# Altium integrated library Linear Technology Comparators.IntLib: 630 symbols (part 10 of 24)
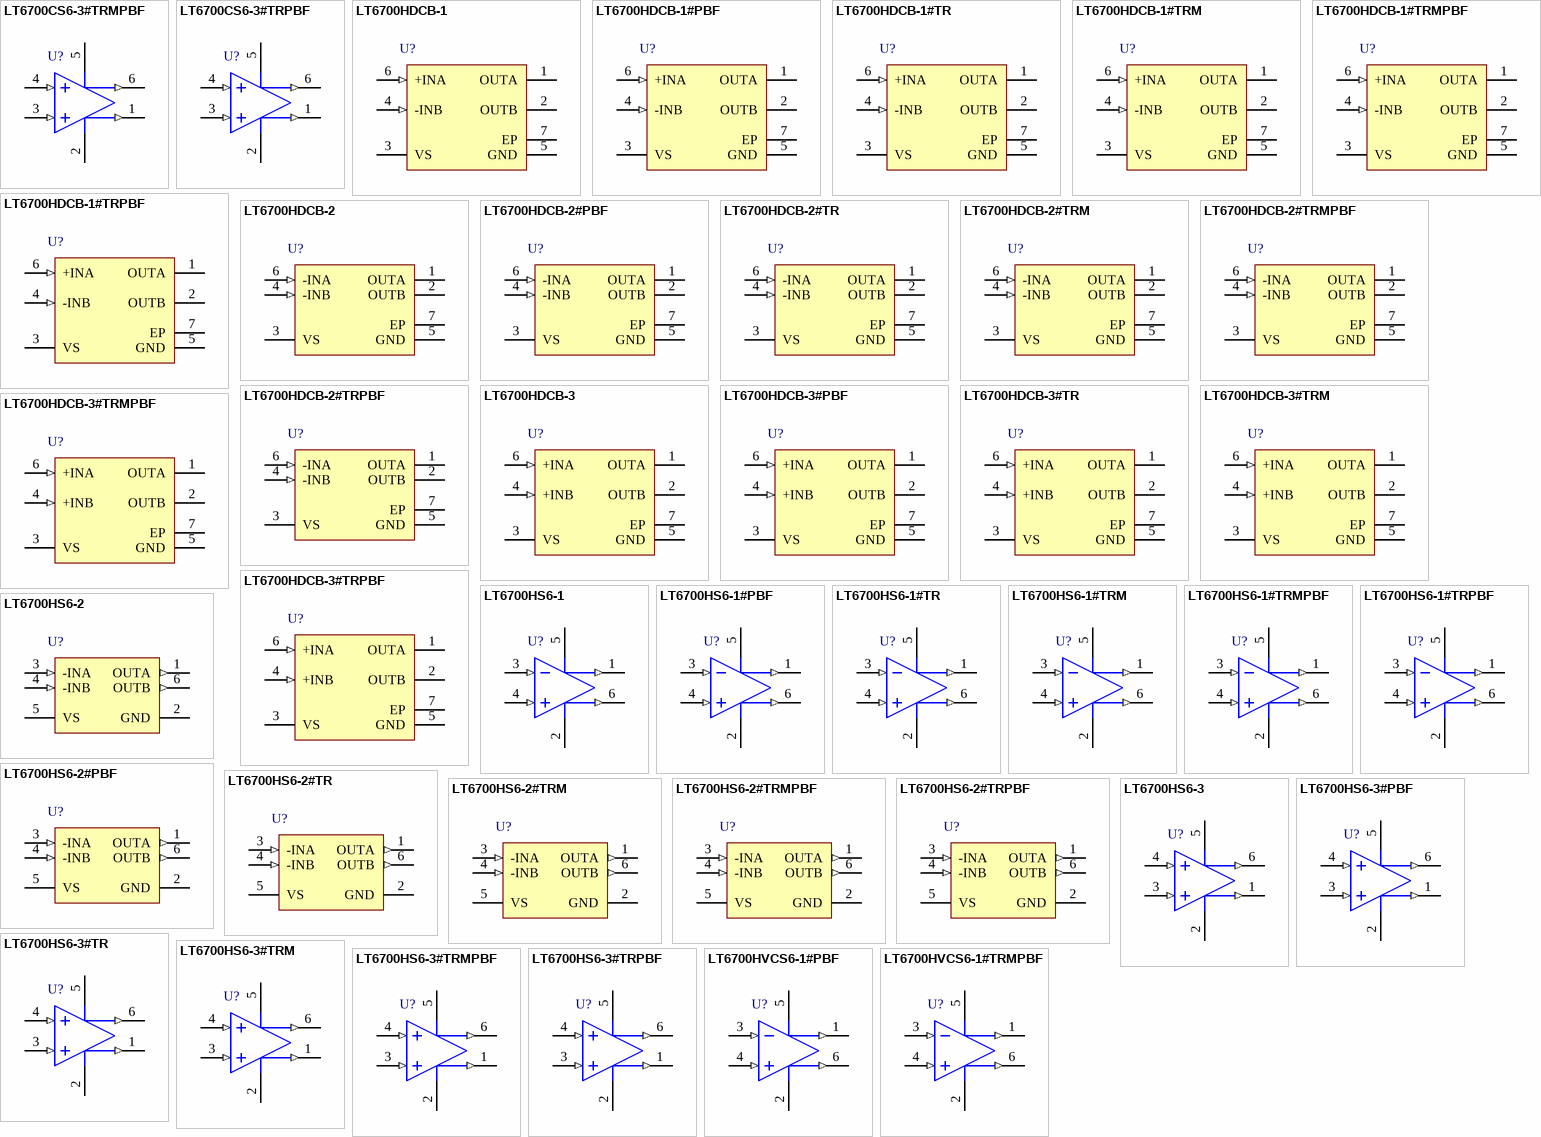
[diagram p33: symbols LT6700CS6-3#TRMPBF to LT6700HVCS6-1#TRMPBF]

## LT6700HS6-2#TR
designator U?
Micropower, Low Voltage, Comparator with 400 mV Reference, 2 Channels, 1.4 to 18 V, -40 to +125 degC, 6-pin Plastic TSOT-23 (S6), Tape and Reel; Generic Part Number: LT6700-2; Manufacturer: Linear Technology; PartNumber: LT6700HS6-2#TR; Channels (#): 2; Prop Delay (us): 18; Supply Current (uA) Guaranteed: 10; Supply Current (uA) Typical: 5.7; Vos (mV) Typical: 6; Vs Min (V): 1.4; DatasheetVersion: Rev G; PackageReference: S6; PackageDescription: 6-Pin Plastic TSOT-23, Body 2.9 x 1.63 mm, Pitch 0.95 mm; Supplier 1: Digi-Key; Supplier Part Number 1: LT6700HS6-2#TR-ND; Features: Comparator, Reference, Over-the-Top Inputs; RoHS: N; Supply Voltage Range: 1.4 to 18 V; Vs Max (V): 18; Mounting Technology: Surface Mount; Code_JEDEC: MO-193; ComponentLink1Description: Manufacturer URL; ComponentLink1URL: http://www.linear.com/; ComponentLink2Description: Datasheet; ComponentLink2URL: http://cds.linear.com/docs/en/datasheet/6700123fg.pdf; ComponentLink3Description: Package Specification; ComponentLink3URL: http://cds.linear.com/docs/en/packaging/SOT_6_05-08-1636.pdf
footprint LT-S6_N (SOT23, 6-Leads, Body 2.9x1.63mm, Pitch 0.95mm, IPC Medium Density)
footprint LT-S6_L (SOT23, 6-Leads, Body 2.9x1.63mm, Pitch 0.95mm, IPC High Density)
footprint LT-S6_M (SOT23, 6-Leads, Body 2.9x1.63mm, Pitch 0.95mm, IPC Low Density)
pins: 1 OUTA (out), 2 GND (power), 3 -INA (in), 4 -INB (in), 5 VS (power), 6 OUTB (out)

## LT6700HS6-2#TRM
designator U?
Micropower, Low Voltage, Comparator with 400 mV Reference, 2 Channels, 1.4 to 18 V, -40 to +125 degC, 6-pin Plastic TSOT-23 (S6), Mini Tape and Reel; Generic Part Number: LT6700-2; Manufacturer: Linear Technology; PartNumber: LT6700HS6-2#TRM; Channels (#): 2; Prop Delay (us): 18; Supply Current (uA) Guaranteed: 10; Supply Current (uA) Typical: 5.7; Vos (mV) Typical: 6; Vs Min (V): 1.4; DatasheetVersion: Rev G; PackageReference: S6; PackageDescription: 6-Pin Plastic TSOT-23, Body 2.9 x 1.63 mm, Pitch 0.95 mm; Supplier 1: Digi-Key; Supplier Part Number 1: LT6700HS6-2#TRM-ND; Features: Comparator, Reference, Over-the-Top Inputs; RoHS: N; Supply Voltage Range: 1.4 to 18 V; Vs Max (V): 18; Mounting Technology: Surface Mount; Code_JEDEC: MO-193; ComponentLink1Description: Manufacturer URL; ComponentLink1URL: http://www.linear.com/; ComponentLink2Description: Datasheet; ComponentLink2URL: http://cds.linear.com/docs/en/datasheet/6700123fg.pdf; ComponentLink3Description: Package Specification; ComponentLink3URL: http://cds.linear.com/docs/en/packaging/SOT_6_05-08-1636.pdf
footprint LT-S6_N (SOT23, 6-Leads, Body 2.9x1.63mm, Pitch 0.95mm, IPC Medium Density)
footprint LT-S6_L (SOT23, 6-Leads, Body 2.9x1.63mm, Pitch 0.95mm, IPC High Density)
footprint LT-S6_M (SOT23, 6-Leads, Body 2.9x1.63mm, Pitch 0.95mm, IPC Low Density)
pins: 1 OUTA (out), 2 GND (power), 3 -INA (in), 4 -INB (in), 5 VS (power), 6 OUTB (out)

## LT6700HS6-2#TRMPBF
designator U?
Micropower, Low Voltage, Comparator with 400 mV Reference, 2 Channels, 1.4 to 18 V, -40 to +125 degC, 6-pin Plastic TSOT-23 (S6), Mini Tape and Reel; Generic Part Number: LT6700-2; Manufacturer: Linear Technology; PartNumber: LT6700HS6-2#TRMPBF; Channels (#): 2; Prop Delay (us): 18; Supply Current (uA) Guaranteed: 10; Supply Current (uA) Typical: 5.7; Vos (mV) Typical: 6; Vs Min (V): 1.4; DatasheetVersion: Rev G; PackageReference: S6; PackageDescription: 6-Pin Plastic TSOT-23, Body 2.9 x 1.63 mm, Pitch 0.95 mm; Supplier 1: Digi-Key; Supplier Part Number 1: LT6700HS6-2#TRMPBF-ND; Features: Comparator, Reference, Over-the-Top Inputs; RoHS: Y; Supply Voltage Range: 1.4 to 18 V; Vs Max (V): 18; Mounting Technology: Surface Mount; Code_JEDEC: MO-193; ComponentLink1Description: Manufacturer URL; ComponentLink1URL: http://www.linear.com/; ComponentLink2Description: Datasheet; ComponentLink2URL: http://cds.linear.com/docs/en/datasheet/6700123fg.pdf; ComponentLink3Description: Package Specification; ComponentLink3URL: http://cds.linear.com/docs/en/packaging/SOT_6_05-08-1636.pdf
footprint LT-S6_N (SOT23, 6-Leads, Body 2.9x1.63mm, Pitch 0.95mm, IPC Medium Density)
footprint LT-S6_L (SOT23, 6-Leads, Body 2.9x1.63mm, Pitch 0.95mm, IPC High Density)
footprint LT-S6_M (SOT23, 6-Leads, Body 2.9x1.63mm, Pitch 0.95mm, IPC Low Density)
pins: 1 OUTA (out), 2 GND (power), 3 -INA (in), 4 -INB (in), 5 VS (power), 6 OUTB (out)

## LT6700HS6-2#TRPBF
designator U?
Micropower, Low Voltage, Comparator with 400 mV Reference, 2 Channels, 1.4 to 18 V, -40 to +125 degC, 6-pin Plastic TSOT-23 (S6), Tape and Reel; Generic Part Number: LT6700-2; Manufacturer: Linear Technology; PartNumber: LT6700HS6-2#TRPBF; Channels (#): 2; Prop Delay (us): 18; Supply Current (uA) Guaranteed: 10; Supply Current (uA) Typical: 5.7; Vos (mV) Typical: 6; Vs Min (V): 1.4; DatasheetVersion: Rev G; PackageReference: S6; PackageDescription: 6-Pin Plastic TSOT-23, Body 2.9 x 1.63 mm, Pitch 0.95 mm; Supplier 1: Digi-Key; Supplier Part Number 1: LT6700HS6-2#TRPBF-ND; Supplier 2: Newark; Supplier Part Number 2: 57M9700; Features: Comparator, Reference, Over-the-Top Inputs; RoHS: Y; Supply Voltage Range: 1.4 to 18 V; Vs Max (V): 18; Mounting Technology: Surface Mount; Code_JEDEC: MO-193; ComponentLink1Description: Manufacturer URL; ComponentLink1URL: http://www.linear.com/; ComponentLink2Description: Datasheet; ComponentLink2URL: http://cds.linear.com/docs/en/datasheet/6700123fg.pdf; ComponentLink3Description: Package Specification; ComponentLink3URL: http://cds.linear.com/docs/en/packaging/SOT_6_05-08-1636.pdf
footprint LT-S6_N (SOT23, 6-Leads, Body 2.9x1.63mm, Pitch 0.95mm, IPC Medium Density)
footprint LT-S6_L (SOT23, 6-Leads, Body 2.9x1.63mm, Pitch 0.95mm, IPC High Density)
footprint LT-S6_M (SOT23, 6-Leads, Body 2.9x1.63mm, Pitch 0.95mm, IPC Low Density)
pins: 1 OUTA (out), 2 GND (power), 3 -INA (in), 4 -INB (in), 5 VS (power), 6 OUTB (out)

## LT6700HS6-3
designator U?
Micropower, Low Voltage, Comparator with 400 mV Reference, 2 Channels, 1.4 to 18 V, -40 to +125 degC, 6-pin Plastic TSOT-23 (S6); Generic Part Number: LT6700-3; Manufacturer: Linear Technology; PartNumber: LT6700HS6-3; Channels (#): 2; Prop Delay (us): 18; Supply Current (uA) Guaranteed: 10; Supply Current (uA) Typical: 5.7; Vos (mV) Typical: 6; Vs Min (V): 1.4; DatasheetVersion: Rev G; PackageReference: S6; PackageDescription: 6-Pin Plastic TSOT-23, Body 2.9 x 1.63 mm, Pitch 0.95 mm; Features: Comparator, Reference, Over-the-Top Inputs; RoHS: N; Supply Voltage Range: 1.4 to 18 V; Vs Max (V): 18; Mounting Technology: Surface Mount; Code_JEDEC: MO-193; ComponentLink1Description: Manufacturer URL; ComponentLink1URL: http://www.linear.com/; ComponentLink2Description: Datasheet; ComponentLink2URL: http://cds.linear.com/docs/en/datasheet/6700123fg.pdf; ComponentLink3Description: Package Specification; ComponentLink3URL: http://cds.linear.com/docs/en/packaging/SOT_6_05-08-1636.pdf
footprint LT-S6_N (SOT23, 6-Leads, Body 2.9x1.63mm, Pitch 0.95mm, IPC Medium Density)
footprint LT-S6_L (SOT23, 6-Leads, Body 2.9x1.63mm, Pitch 0.95mm, IPC High Density)
footprint LT-S6_M (SOT23, 6-Leads, Body 2.9x1.63mm, Pitch 0.95mm, IPC Low Density)
pins: 1 OUTA (out), 2 GND (power), 3 +INA (in), 4 +INB (in), 5 VS (power), 6 OUTB (out)

## LT6700HS6-3#PBF
designator U?
Micropower, Low Voltage, Comparator with 400 mV Reference, 2 Channels, 1.4 to 18 V, -40 to +125 degC, 6-pin Plastic TSOT-23 (S6); Generic Part Number: LT6700-3; Manufacturer: Linear Technology; PartNumber: LT6700HS6-3#PBF; Channels (#): 2; Prop Delay (us): 18; Supply Current (uA) Guaranteed: 10; Supply Current (uA) Typical: 5.7; Vos (mV) Typical: 6; Vs Min (V): 1.4; DatasheetVersion: Rev G; PackageReference: S6; PackageDescription: 6-Pin Plastic TSOT-23, Body 2.9 x 1.63 mm, Pitch 0.95 mm; Supplier 1: Farnell; Supplier Part Number 1: 2294779; Supplier 2: Newark; Supplier Part Number 2: 78T4284; Features: Comparator, Reference, Over-the-Top Inputs; RoHS: Y; Supply Voltage Range: 1.4 to 18 V; Vs Max (V): 18; Mounting Technology: Surface Mount; Code_JEDEC: MO-193; ComponentLink1Description: Manufacturer URL; ComponentLink1URL: http://www.linear.com/; ComponentLink2Description: Datasheet; ComponentLink2URL: http://cds.linear.com/docs/en/datasheet/6700123fg.pdf; ComponentLink3Description: Package Specification; ComponentLink3URL: http://cds.linear.com/docs/en/packaging/SOT_6_05-08-1636.pdf
footprint LT-S6_N (SOT23, 6-Leads, Body 2.9x1.63mm, Pitch 0.95mm, IPC Medium Density)
footprint LT-S6_L (SOT23, 6-Leads, Body 2.9x1.63mm, Pitch 0.95mm, IPC High Density)
footprint LT-S6_M (SOT23, 6-Leads, Body 2.9x1.63mm, Pitch 0.95mm, IPC Low Density)
pins: 1 OUTA (out), 2 GND (power), 3 +INA (in), 4 +INB (in), 5 VS (power), 6 OUTB (out)

## LT6700HS6-3#TR
designator U?
Micropower, Low Voltage, Comparator with 400 mV Reference, 2 Channels, 1.4 to 18 V, -40 to +125 degC, 6-pin Plastic TSOT-23 (S6), Tape and Reel; Generic Part Number: LT6700-3; Manufacturer: Linear Technology; PartNumber: LT6700HS6-3#TR; Channels (#): 2; Prop Delay (us): 18; Supply Current (uA) Guaranteed: 10; Supply Current (uA) Typical: 5.7; Vos (mV) Typical: 6; Vs Min (V): 1.4; DatasheetVersion: Rev G; PackageReference: S6; PackageDescription: 6-Pin Plastic TSOT-23, Body 2.9 x 1.63 mm, Pitch 0.95 mm; Supplier 1: Digi-Key; Supplier Part Number 1: LT6700HS6-3#TR-ND; Features: Comparator, Reference, Over-the-Top Inputs; RoHS: N; Supply Voltage Range: 1.4 to 18 V; Vs Max (V): 18; Mounting Technology: Surface Mount; Code_JEDEC: MO-193; ComponentLink1Description: Manufacturer URL; ComponentLink1URL: http://www.linear.com/; ComponentLink2Description: Datasheet; ComponentLink2URL: http://cds.linear.com/docs/en/datasheet/6700123fg.pdf; ComponentLink3Description: Package Specification; ComponentLink3URL: http://cds.linear.com/docs/en/packaging/SOT_6_05-08-1636.pdf
footprint LT-S6_N (SOT23, 6-Leads, Body 2.9x1.63mm, Pitch 0.95mm, IPC Medium Density)
footprint LT-S6_L (SOT23, 6-Leads, Body 2.9x1.63mm, Pitch 0.95mm, IPC High Density)
footprint LT-S6_M (SOT23, 6-Leads, Body 2.9x1.63mm, Pitch 0.95mm, IPC Low Density)
pins: 1 OUTA (out), 2 GND (power), 3 +INA (in), 4 +INB (in), 5 VS (power), 6 OUTB (out)

## LT6700HS6-3#TRM
designator U?
Micropower, Low Voltage, Comparator with 400 mV Reference, 2 Channels, 1.4 to 18 V, -40 to +125 degC, 6-pin Plastic TSOT-23 (S6), Mini Tape and Reel; Generic Part Number: LT6700-3; Manufacturer: Linear Technology; PartNumber: LT6700HS6-3#TRM; Channels (#): 2; Prop Delay (us): 18; Supply Current (uA) Guaranteed: 10; Supply Current (uA) Typical: 5.7; Vos (mV) Typical: 6; Vs Min (V): 1.4; DatasheetVersion: Rev G; PackageReference: S6; PackageDescription: 6-Pin Plastic TSOT-23, Body 2.9 x 1.63 mm, Pitch 0.95 mm; Supplier 1: Digi-Key; Supplier Part Number 1: LT6700HS6-3#TRM-ND; Features: Comparator, Reference, Over-the-Top Inputs; RoHS: N; Supply Voltage Range: 1.4 to 18 V; Vs Max (V): 18; Mounting Technology: Surface Mount; Code_JEDEC: MO-193; ComponentLink1Description: Manufacturer URL; ComponentLink1URL: http://www.linear.com/; ComponentLink2Description: Datasheet; ComponentLink2URL: http://cds.linear.com/docs/en/datasheet/6700123fg.pdf; ComponentLink3Description: Package Specification; ComponentLink3URL: http://cds.linear.com/docs/en/packaging/SOT_6_05-08-1636.pdf
footprint LT-S6_N (SOT23, 6-Leads, Body 2.9x1.63mm, Pitch 0.95mm, IPC Medium Density)
footprint LT-S6_L (SOT23, 6-Leads, Body 2.9x1.63mm, Pitch 0.95mm, IPC High Density)
footprint LT-S6_M (SOT23, 6-Leads, Body 2.9x1.63mm, Pitch 0.95mm, IPC Low Density)
pins: 1 OUTA (out), 2 GND (power), 3 +INA (in), 4 +INB (in), 5 VS (power), 6 OUTB (out)

## LT6700HS6-3#TRMPBF
designator U?
Micropower, Low Voltage, Comparator with 400 mV Reference, 2 Channels, 1.4 to 18 V, -40 to +125 degC, 6-pin Plastic TSOT-23 (S6), Mini Tape and Reel; Generic Part Number: LT6700-3; Manufacturer: Linear Technology; PartNumber: LT6700HS6-3#TRMPBF; Channels (#): 2; Prop Delay (us): 18; Supply Current (uA) Guaranteed: 10; Supply Current (uA) Typical: 5.7; Vos (mV) Typical: 6; Vs Min (V): 1.4; DatasheetVersion: Rev G; PackageReference: S6; PackageDescription: 6-Pin Plastic TSOT-23, Body 2.9 x 1.63 mm, Pitch 0.95 mm; Supplier 1: Digi-Key; Supplier Part Number 1: LT6700HS6-3#TRMPBF-ND; Features: Comparator, Reference, Over-the-Top Inputs; RoHS: Y; Supply Voltage Range: 1.4 to 18 V; Vs Max (V): 18; Mounting Technology: Surface Mount; Code_JEDEC: MO-193; ComponentLink1Description: Manufacturer URL; ComponentLink1URL: http://www.linear.com/; ComponentLink2Description: Datasheet; ComponentLink2URL: http://cds.linear.com/docs/en/datasheet/6700123fg.pdf; ComponentLink3Description: Package Specification; ComponentLink3URL: http://cds.linear.com/docs/en/packaging/SOT_6_05-08-1636.pdf
footprint LT-S6_N (SOT23, 6-Leads, Body 2.9x1.63mm, Pitch 0.95mm, IPC Medium Density)
footprint LT-S6_L (SOT23, 6-Leads, Body 2.9x1.63mm, Pitch 0.95mm, IPC High Density)
footprint LT-S6_M (SOT23, 6-Leads, Body 2.9x1.63mm, Pitch 0.95mm, IPC Low Density)
pins: 1 OUTA (out), 2 GND (power), 3 +INA (in), 4 +INB (in), 5 VS (power), 6 OUTB (out)

## LT6700HS6-3#TRPBF
designator U?
Micropower, Low Voltage, Comparator with 400 mV Reference, 2 Channels, 1.4 to 18 V, -40 to +125 degC, 6-pin Plastic TSOT-23 (S6), Tape and Reel; Generic Part Number: LT6700-3; Manufacturer: Linear Technology; PartNumber: LT6700HS6-3#TRPBF; Channels (#): 2; Prop Delay (us): 18; Supply Current (uA) Guaranteed: 10; Supply Current (uA) Typical: 5.7; Vos (mV) Typical: 6; Vs Min (V): 1.4; DatasheetVersion: Rev G; PackageReference: S6; PackageDescription: 6-Pin Plastic TSOT-23, Body 2.9 x 1.63 mm, Pitch 0.95 mm; Supplier 1: Digi-Key; Supplier Part Number 1: LT6700HS6-3#TRPBF-ND; Features: Comparator, Reference, Over-the-Top Inputs; RoHS: Y; Supply Voltage Range: 1.4 to 18 V; Vs Max (V): 18; Mounting Technology: Surface Mount; Code_JEDEC: MO-193; ComponentLink1Description: Manufacturer URL; ComponentLink1URL: http://www.linear.com/; ComponentLink2Description: Datasheet; ComponentLink2URL: http://cds.linear.com/docs/en/datasheet/6700123fg.pdf; ComponentLink3Description: Package Specification; ComponentLink3URL: http://cds.linear.com/docs/en/packaging/SOT_6_05-08-1636.pdf
footprint LT-S6_N (SOT23, 6-Leads, Body 2.9x1.63mm, Pitch 0.95mm, IPC Medium Density)
footprint LT-S6_L (SOT23, 6-Leads, Body 2.9x1.63mm, Pitch 0.95mm, IPC High Density)
footprint LT-S6_M (SOT23, 6-Leads, Body 2.9x1.63mm, Pitch 0.95mm, IPC Low Density)
pins: 1 OUTA (out), 2 GND (power), 3 +INA (in), 4 +INB (in), 5 VS (power), 6 OUTB (out)

## LT6700HVCS6-1#PBF
designator U?
Micropower, Low Voltage, Comparator with 400 mV Reference, 2 Channels, 1.4 to 36 V, 0 to +70 degC, 6-pin Plastic TSOT-23 (S6); Generic Part Number: LT6700HV-1; Manufacturer: Linear Technology; PartNumber: LT6700HVCS6-1#PBF; Channels (#): 2; Prop Delay (us): 18; Supply Current (uA) Guaranteed: 10; Supply Current (uA) Typical: 5.7; Vos (mV) Typical: 6; Vs Max (V): 36; Vs Min (V): 1.4; DatasheetVersion: Rev G; PackageReference: S6; PackageDescription: 6-Pin Plastic TSOT-23, Body 2.9 x 1.63 mm, Pitch 0.95 mm; Features: Comparator, Window Comparator, Reference, Over-the-Top Inputs; RoHS: Y; Supply Voltage Range: 1.4 to 36 V; Mounting Technology: Surface Mount; Code_JEDEC: MO-193; ComponentLink1Description: Manufacturer URL; ComponentLink1URL: http://www.linear.com/; ComponentLink2Description: Datasheet; ComponentLink2URL: http://cds.linear.com/docs/en/datasheet/6700123fg.pdf; ComponentLink3Description: Package Specification; ComponentLink3URL: http://cds.linear.com/docs/en/packaging/SOT_6_05-08-1636.pdf
footprint LT-S6_N (SOT23, 6-Leads, Body 2.9x1.63mm, Pitch 0.95mm, IPC Medium Density)
footprint LT-S6_L (SOT23, 6-Leads, Body 2.9x1.63mm, Pitch 0.95mm, IPC High Density)
footprint LT-S6_M (SOT23, 6-Leads, Body 2.9x1.63mm, Pitch 0.95mm, IPC Low Density)
pins: 1 OUTA (out), 2 GND (power), 3 +INA (in), 4 -INB (in), 5 VS (power), 6 OUTB (out)

## LT6700HVCS6-1#TRMPBF
designator U?
Micropower, Low Voltage, Comparator with 400 mV Reference, 2 Channels, 1.4 to 36 V, 0 to +70 degC, 6-pin Plastic TSOT-23 (S6), Mini Tape and Reel; Generic Part Number: LT6700HV-1; Manufacturer: Linear Technology; PartNumber: LT6700HVCS6-1#TRMPBF; Channels (#): 2; Prop Delay (us): 18; Supply Current (uA) Guaranteed: 10; Supply Current (uA) Typical: 5.7; Vos (mV) Typical: 6; Vs Max (V): 36; Vs Min (V): 1.4; DatasheetVersion: Rev G; PackageReference: S6; PackageDescription: 6-Pin Plastic TSOT-23, Body 2.9 x 1.63 mm, Pitch 0.95 mm; Supplier 1: Digi-Key; Supplier Part Number 1: LT6700HVCS6-1#TRMPBF-ND; Features: Comparator, Window Comparator, Reference, Over-the-Top Inputs; RoHS: Y; Supply Voltage Range: 1.4 to 36 V; Mounting Technology: Surface Mount; Code_JEDEC: MO-193; ComponentLink1Description: Manufacturer URL; ComponentLink1URL: http://www.linear.com/; ComponentLink2Description: Datasheet; ComponentLink2URL: http://cds.linear.com/docs/en/datasheet/6700123fg.pdf; ComponentLink3Description: Package Specification; ComponentLink3URL: http://cds.linear.com/docs/en/packaging/SOT_6_05-08-1636.pdf
footprint LT-S6_N (SOT23, 6-Leads, Body 2.9x1.63mm, Pitch 0.95mm, IPC Medium Density)
footprint LT-S6_L (SOT23, 6-Leads, Body 2.9x1.63mm, Pitch 0.95mm, IPC High Density)
footprint LT-S6_M (SOT23, 6-Leads, Body 2.9x1.63mm, Pitch 0.95mm, IPC Low Density)
pins: 1 OUTA (out), 2 GND (power), 3 +INA (in), 4 -INB (in), 5 VS (power), 6 OUTB (out)

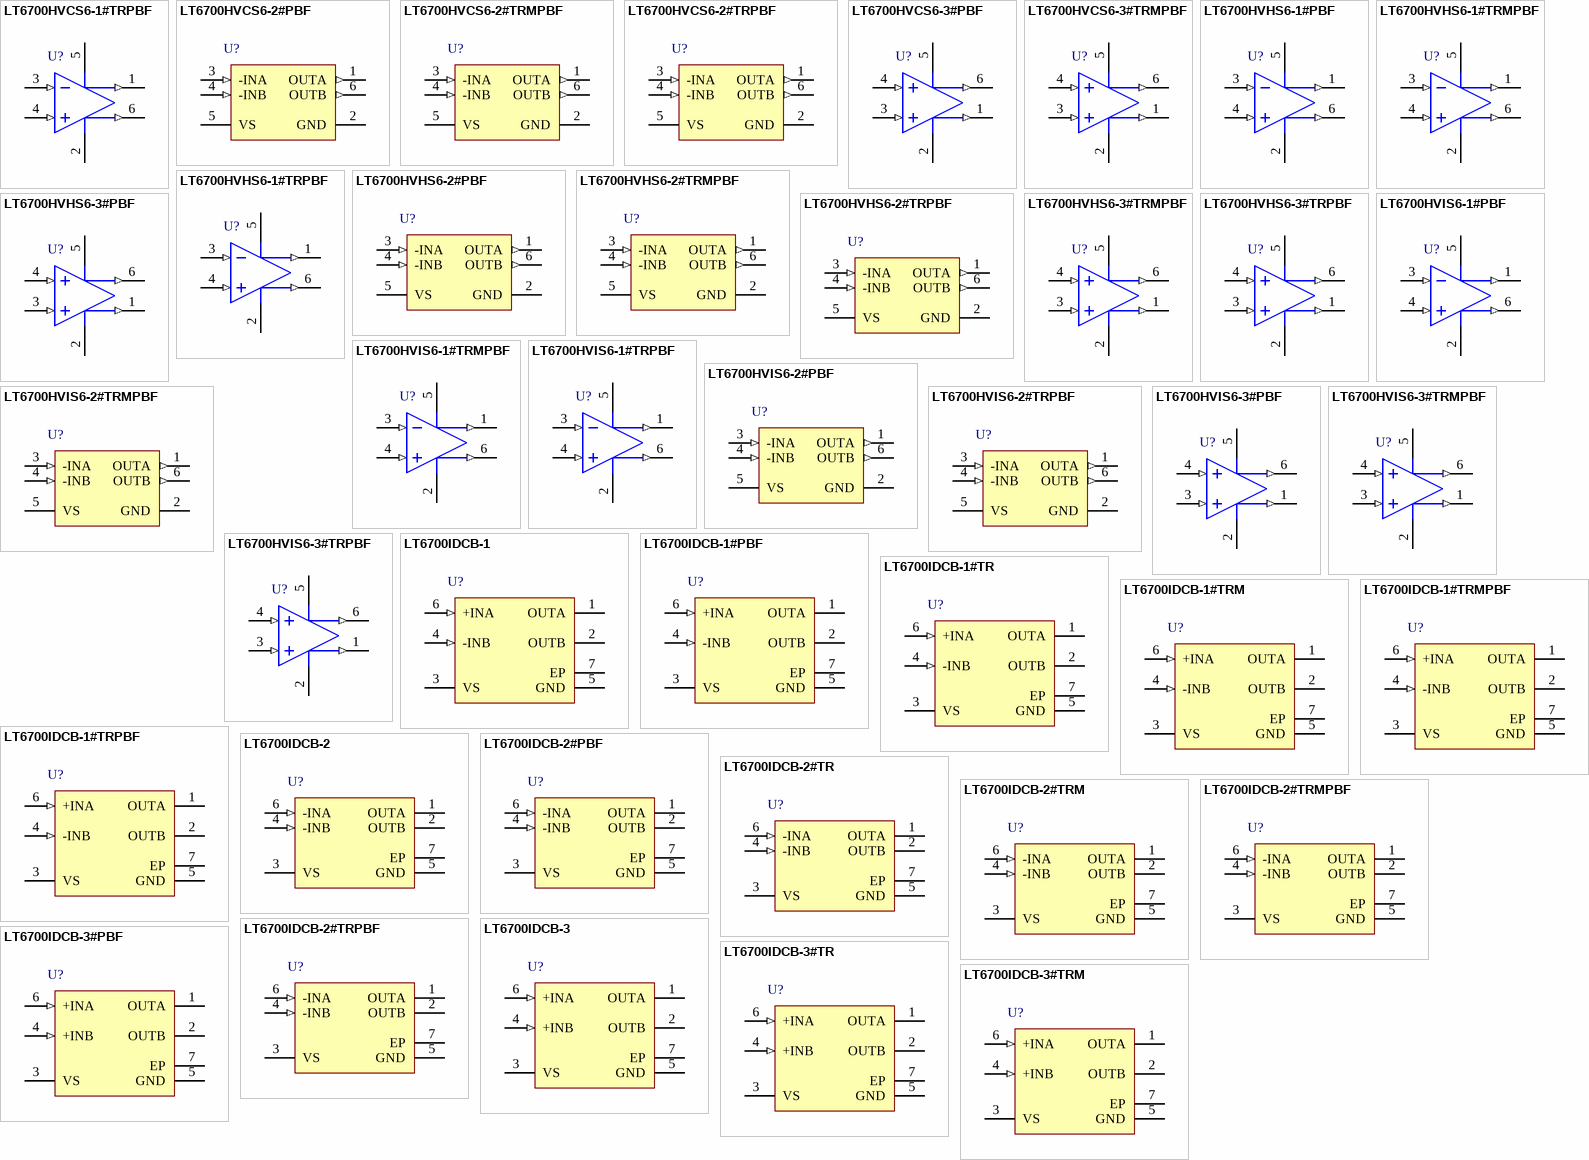
[diagram p10: symbols LT6700HVCS6-1#TRPBF to LT6700IDCB-3#TRM]

## LT6700HVCS6-1#TRPBF
designator U?
Micropower, Low Voltage, Comparator with 400 mV Reference, 2 Channels, 1.4 to 36 V, 0 to +70 degC, 6-pin Plastic TSOT-23 (S6), Tape and Reel; Generic Part Number: LT6700HV-1; Manufacturer: Linear Technology; PartNumber: LT6700HVCS6-1#TRPBF; Channels (#): 2; Prop Delay (us): 18; Supply Current (uA) Guaranteed: 10; Supply Current (uA) Typical: 5.7; Vos (mV) Typical: 6; Vs Max (V): 36; Vs Min (V): 1.4; DatasheetVersion: Rev G; PackageReference: S6; PackageDescription: 6-Pin Plastic TSOT-23, Body 2.9 x 1.63 mm, Pitch 0.95 mm; Supplier 1: Digi-Key; Supplier Part Number 1: LT6700HVCS6-1#TRPBF-ND; Supplier 2: Newark; Supplier Part Number 2: 02P7675; Features: Comparator, Window Comparator, Reference, Over-the-Top Inputs; RoHS: Y; Supply Voltage Range: 1.4 to 36 V; Mounting Technology: Surface Mount; Code_JEDEC: MO-193; ComponentLink1Description: Manufacturer URL; ComponentLink1URL: http://www.linear.com/; ComponentLink2Description: Datasheet; ComponentLink2URL: http://cds.linear.com/docs/en/datasheet/6700123fg.pdf; ComponentLink3Description: Package Specification; ComponentLink3URL: http://cds.linear.com/docs/en/packaging/SOT_6_05-08-1636.pdf
footprint LT-S6_N (SOT23, 6-Leads, Body 2.9x1.63mm, Pitch 0.95mm, IPC Medium Density)
footprint LT-S6_L (SOT23, 6-Leads, Body 2.9x1.63mm, Pitch 0.95mm, IPC High Density)
footprint LT-S6_M (SOT23, 6-Leads, Body 2.9x1.63mm, Pitch 0.95mm, IPC Low Density)
pins: 1 OUTA (out), 2 GND (power), 3 +INA (in), 4 -INB (in), 5 VS (power), 6 OUTB (out)

## LT6700HVCS6-2#PBF
designator U?
Micropower, Low Voltage, Comparator with 400 mV Reference, 2 Channels, 1.4 to 36 V, 0 to +70 degC, 6-pin Plastic TSOT-23 (S6); Generic Part Number: LT6700HV-2; Manufacturer: Linear Technology; PartNumber: LT6700HVCS6-2#PBF; Channels (#): 2; Prop Delay (us): 18; Supply Current (uA) Guaranteed: 10; Supply Current (uA) Typical: 5.7; Vos (mV) Typical: 6; Vs Max (V): 36; Vs Min (V): 1.4; DatasheetVersion: Rev G; PackageReference: S6; PackageDescription: 6-Pin Plastic TSOT-23, Body 2.9 x 1.63 mm, Pitch 0.95 mm; Supplier 1: Farnell; Supplier Part Number 1: 2294780; Features: Comparator, Reference, Over-the-Top Inputs; RoHS: Y; Supply Voltage Range: 1.4 to 36 V; Mounting Technology: Surface Mount; Code_JEDEC: MO-193; ComponentLink1Description: Manufacturer URL; ComponentLink1URL: http://www.linear.com/; ComponentLink2Description: Datasheet; ComponentLink2URL: http://cds.linear.com/docs/en/datasheet/6700123fg.pdf; ComponentLink3Description: Package Specification; ComponentLink3URL: http://cds.linear.com/docs/en/packaging/SOT_6_05-08-1636.pdf
footprint LT-S6_N (SOT23, 6-Leads, Body 2.9x1.63mm, Pitch 0.95mm, IPC Medium Density)
footprint LT-S6_L (SOT23, 6-Leads, Body 2.9x1.63mm, Pitch 0.95mm, IPC High Density)
footprint LT-S6_M (SOT23, 6-Leads, Body 2.9x1.63mm, Pitch 0.95mm, IPC Low Density)
pins: 1 OUTA (out), 2 GND (power), 3 -INA (in), 4 -INB (in), 5 VS (power), 6 OUTB (out)

## LT6700HVCS6-2#TRMPBF
designator U?
Micropower, Low Voltage, Comparator with 400 mV Reference, 2 Channels, 1.4 to 36 V, 0 to +70 degC, 6-pin Plastic TSOT-23 (S6), Mini Tape and Reel; Generic Part Number: LT6700HV-2; Manufacturer: Linear Technology; PartNumber: LT6700HVCS6-2#TRMPBF; Channels (#): 2; Prop Delay (us): 18; Supply Current (uA) Guaranteed: 10; Supply Current (uA) Typical: 5.7; Supply Voltage Range: 1.4 to 18 V; Vos (mV) Typical: 6; Vs Max (V): 36; Vs Min (V): 1.4; DatasheetVersion: Rev G; PackageReference: S6; PackageDescription: 6-Pin Plastic TSOT-23, Body 2.9 x 1.63 mm, Pitch 0.95 mm; Supplier 1: Digi-Key; Supplier Part Number 1: LT6700HVCS6-2#TRMPBF-ND; Features: Comparator, Reference, Over-the-Top Inputs; RoHS: Y; Mounting Technology: Surface Mount; Code_JEDEC: MO-193; ComponentLink1Description: Manufacturer URL; ComponentLink1URL: http://www.linear.com/; ComponentLink2Description: Datasheet; ComponentLink2URL: http://cds.linear.com/docs/en/datasheet/6700123fg.pdf; ComponentLink3Description: Package Specification; ComponentLink3URL: http://cds.linear.com/docs/en/packaging/SOT_6_05-08-1636.pdf
footprint LT-S6_N (SOT23, 6-Leads, Body 2.9x1.63mm, Pitch 0.95mm, IPC Medium Density)
footprint LT-S6_L (SOT23, 6-Leads, Body 2.9x1.63mm, Pitch 0.95mm, IPC High Density)
footprint LT-S6_M (SOT23, 6-Leads, Body 2.9x1.63mm, Pitch 0.95mm, IPC Low Density)
pins: 1 OUTA (out), 2 GND (power), 3 -INA (in), 4 -INB (in), 5 VS (power), 6 OUTB (out)

## LT6700HVCS6-2#TRPBF
designator U?
Micropower, Low Voltage, Comparator with 400 mV Reference, 2 Channels, 1.4 to 36 V, 0 to +70 degC, 6-pin Plastic TSOT-23 (S6), Tape and Reel; Generic Part Number: LT6700HV-2; Manufacturer: Linear Technology; PartNumber: LT6700HVCS6-2#TRPBF; Channels (#): 2; Prop Delay (us): 18; Supply Current (uA) Guaranteed: 10; Supply Current (uA) Typical: 5.7; Supply Voltage Range: 1.4 to 18 V; Vos (mV) Typical: 6; Vs Max (V): 36; Vs Min (V): 1.4; DatasheetVersion: Rev G; PackageReference: S6; PackageDescription: 6-Pin Plastic TSOT-23, Body 2.9 x 1.63 mm, Pitch 0.95 mm; Supplier 1: Digi-Key; Supplier Part Number 1: LT6700HVCS6-2#TRPBF-ND; Features: Comparator, Reference, Over-the-Top Inputs; RoHS: Y; Mounting Technology: Surface Mount; Code_JEDEC: MO-193; ComponentLink1Description: Manufacturer URL; ComponentLink1URL: http://www.linear.com/; ComponentLink2Description: Datasheet; ComponentLink2URL: http://cds.linear.com/docs/en/datasheet/6700123fg.pdf; ComponentLink3Description: Package Specification; ComponentLink3URL: http://cds.linear.com/docs/en/packaging/SOT_6_05-08-1636.pdf
footprint LT-S6_N (SOT23, 6-Leads, Body 2.9x1.63mm, Pitch 0.95mm, IPC Medium Density)
footprint LT-S6_L (SOT23, 6-Leads, Body 2.9x1.63mm, Pitch 0.95mm, IPC High Density)
footprint LT-S6_M (SOT23, 6-Leads, Body 2.9x1.63mm, Pitch 0.95mm, IPC Low Density)
pins: 1 OUTA (out), 2 GND (power), 3 -INA (in), 4 -INB (in), 5 VS (power), 6 OUTB (out)

## LT6700HVCS6-3#PBF
designator U?
Micropower, Low Voltage, Comparator with 400 mV Reference, 2 Channels, 1.4 to 36 V, 0 to +70 degC, 6-pin Plastic TSOT-23 (S6); Generic Part Number: LT6700HV-3; Manufacturer: Linear Technology; PartNumber: LT6700HVCS6-3#PBF; Channels (#): 2; Prop Delay (us): 18; Supply Current (uA) Guaranteed: 10; Supply Current (uA) Typical: 5.7; Supply Voltage Range: 1.4 to 18 V; Vos (mV) Typical: 6; Vs Max (V): 36; Vs Min (V): 1.4; DatasheetVersion: Rev G; PackageReference: S6; PackageDescription: 6-Pin Plastic TSOT-23, Body 2.9 x 1.63 mm, Pitch 0.95 mm; Supplier 1: Farnell; Supplier Part Number 1: 2294781; Features: Comparator, Reference, Over-the-Top Inputs; RoHS: Y; Mounting Technology: Surface Mount; Code_JEDEC: MO-193; ComponentLink1Description: Manufacturer URL; ComponentLink1URL: http://www.linear.com/; ComponentLink2Description: Datasheet; ComponentLink2URL: http://cds.linear.com/docs/en/datasheet/6700123fg.pdf; ComponentLink3Description: Package Specification; ComponentLink3URL: http://cds.linear.com/docs/en/packaging/SOT_6_05-08-1636.pdf
footprint LT-S6_N (SOT23, 6-Leads, Body 2.9x1.63mm, Pitch 0.95mm, IPC Medium Density)
footprint LT-S6_L (SOT23, 6-Leads, Body 2.9x1.63mm, Pitch 0.95mm, IPC High Density)
footprint LT-S6_M (SOT23, 6-Leads, Body 2.9x1.63mm, Pitch 0.95mm, IPC Low Density)
pins: 1 OUTA (out), 2 GND (power), 3 +INA (in), 4 +INB (in), 5 VS (power), 6 OUTB (out)

## LT6700HVCS6-3#TRMPBF
designator U?
Micropower, Low Voltage, Comparator with 400 mV Reference, 2 Channels, 1.4 to 36 V, 0 to +70 degC, 6-pin Plastic TSOT-23 (S6), Mini Tape and Reel; Generic Part Number: LT6700HV-3; Manufacturer: Linear Technology; PartNumber: LT6700HVCS6-3#TRMPBF; Channels (#): 2; Prop Delay (us): 18; Supply Current (uA) Guaranteed: 10; Supply Current (uA) Typical: 5.7; Vos (mV) Typical: 6; Vs Max (V): 36; Vs Min (V): 1.4; DatasheetVersion: Rev G; PackageReference: S6; PackageDescription: 6-Pin Plastic TSOT-23, Body 2.9 x 1.63 mm, Pitch 0.95 mm; Supplier 1: Digi-Key; Supplier Part Number 1: LT6700HVCS6-3#TRMPBF-ND; Features: Comparator, Reference, Over-the-Top Inputs; RoHS: Y; Supply Voltage Range: 1.4 to 36 V; Mounting Technology: Surface Mount; Code_JEDEC: MO-193; ComponentLink1Description: Manufacturer URL; ComponentLink1URL: http://www.linear.com/; ComponentLink2Description: Datasheet; ComponentLink2URL: http://cds.linear.com/docs/en/datasheet/6700123fg.pdf; ComponentLink3Description: Package Specification; ComponentLink3URL: http://cds.linear.com/docs/en/packaging/SOT_6_05-08-1636.pdf
footprint LT-S6_N (SOT23, 6-Leads, Body 2.9x1.63mm, Pitch 0.95mm, IPC Medium Density)
footprint LT-S6_L (SOT23, 6-Leads, Body 2.9x1.63mm, Pitch 0.95mm, IPC High Density)
footprint LT-S6_M (SOT23, 6-Leads, Body 2.9x1.63mm, Pitch 0.95mm, IPC Low Density)
pins: 1 OUTA (out), 2 GND (power), 3 +INA (in), 4 +INB (in), 5 VS (power), 6 OUTB (out)

## LT6700HVHS6-1#PBF
designator U?
Micropower, Low Voltage, Comparator with 400 mV Reference, 2 Channels, 1.4 to 36 V, -40 to +125 degC, 6-pin Plastic TSOT-23 (S6); Generic Part Number: LT6700HV-1; Manufacturer: Linear Technology; PartNumber: LT6700HVHS6-1#PBF; Channels (#): 2; Prop Delay (us): 18; Supply Current (uA) Guaranteed: 10; Supply Current (uA) Typical: 5.7; Vos (mV) Typical: 6; Vs Max (V): 36; Vs Min (V): 1.4; DatasheetVersion: Rev G; PackageReference: S6; PackageDescription: 6-Pin Plastic TSOT-23, Body 2.9 x 1.63 mm, Pitch 0.95 mm; Supplier 1: Newark; Supplier Part Number 1: 78T4288; Features: Comparator, Window Comparator, Reference, Over-the-Top Inputs; RoHS: Y; Supply Voltage Range: 1.4 to 36 V; Mounting Technology: Surface Mount; Code_JEDEC: MO-193; ComponentLink1Description: Manufacturer URL; ComponentLink1URL: http://www.linear.com/; ComponentLink2Description: Datasheet; ComponentLink2URL: http://cds.linear.com/docs/en/datasheet/6700123fg.pdf; ComponentLink3Description: Package Specification; ComponentLink3URL: http://cds.linear.com/docs/en/packaging/SOT_6_05-08-1636.pdf
footprint LT-S6_N (SOT23, 6-Leads, Body 2.9x1.63mm, Pitch 0.95mm, IPC Medium Density)
footprint LT-S6_L (SOT23, 6-Leads, Body 2.9x1.63mm, Pitch 0.95mm, IPC High Density)
footprint LT-S6_M (SOT23, 6-Leads, Body 2.9x1.63mm, Pitch 0.95mm, IPC Low Density)
pins: 1 OUTA (out), 2 GND (power), 3 +INA (in), 4 -INB (in), 5 VS (power), 6 OUTB (out)

## LT6700HVHS6-1#TRMPBF
designator U?
Micropower, Low Voltage, Comparator with 400 mV Reference, 2 Channels, 1.4 to 36 V, -40 to +125 degC, 6-pin Plastic TSOT-23 (S6), Mini Tape and Reel; Generic Part Number: LT6700HV-1; Manufacturer: Linear Technology; PartNumber: LT6700HVHS6-1#TRMPBF; Channels (#): 2; Prop Delay (us): 18; Supply Current (uA) Guaranteed: 10; Supply Current (uA) Typical: 5.7; Vos (mV) Typical: 6; Vs Max (V): 36; Vs Min (V): 1.4; DatasheetVersion: Rev G; PackageReference: S6; PackageDescription: 6-Pin Plastic TSOT-23, Body 2.9 x 1.63 mm, Pitch 0.95 mm; Supplier 1: Digi-Key; Supplier Part Number 1: LT6700HVHS6-1#TRMPBF-ND; Features: Comparator, Window Comparator, Reference, Over-the-Top Inputs; RoHS: Y; Supply Voltage Range: 1.4 to 36 V; Mounting Technology: Surface Mount; Code_JEDEC: MO-193; ComponentLink1Description: Manufacturer URL; ComponentLink1URL: http://www.linear.com/; ComponentLink2Description: Datasheet; ComponentLink2URL: http://cds.linear.com/docs/en/datasheet/6700123fg.pdf; ComponentLink3Description: Package Specification; ComponentLink3URL: http://cds.linear.com/docs/en/packaging/SOT_6_05-08-1636.pdf
footprint LT-S6_N (SOT23, 6-Leads, Body 2.9x1.63mm, Pitch 0.95mm, IPC Medium Density)
footprint LT-S6_L (SOT23, 6-Leads, Body 2.9x1.63mm, Pitch 0.95mm, IPC High Density)
footprint LT-S6_M (SOT23, 6-Leads, Body 2.9x1.63mm, Pitch 0.95mm, IPC Low Density)
pins: 1 OUTA (out), 2 GND (power), 3 +INA (in), 4 -INB (in), 5 VS (power), 6 OUTB (out)

## LT6700HVHS6-1#TRPBF
designator U?
Micropower, Low Voltage, Comparator with 400 mV Reference, 2 Channels, 1.4 to 36 V, -40 to +125 degC, 6-pin Plastic TSOT-23 (S6), Tape and Reel; Generic Part Number: LT6700HV-1; Manufacturer: Linear Technology; PartNumber: LT6700HVHS6-1#TRPBF; Channels (#): 2; Prop Delay (us): 18; Supply Current (uA) Guaranteed: 10; Supply Current (uA) Typical: 5.7; Vos (mV) Typical: 6; Vs Max (V): 36; Vs Min (V): 1.4; DatasheetVersion: Rev G; PackageReference: S6; PackageDescription: 6-Pin Plastic TSOT-23, Body 2.9 x 1.63 mm, Pitch 0.95 mm; Supplier 1: Digi-Key; Supplier Part Number 1: LT6700HVHS6-1#TRPBF-ND; Supplier 2: Newark; Supplier Part Number 2: 02P7680; Features: Comparator, Window Comparator, Reference, Over-the-Top Inputs; RoHS: Y; Supply Voltage Range: 1.4 to 36 V; Mounting Technology: Surface Mount; Code_JEDEC: MO-193; ComponentLink1Description: Manufacturer URL; ComponentLink1URL: http://www.linear.com/; ComponentLink2Description: Datasheet; ComponentLink2URL: http://cds.linear.com/docs/en/datasheet/6700123fg.pdf; ComponentLink3Description: Package Specification; ComponentLink3URL: http://cds.linear.com/docs/en/packaging/SOT_6_05-08-1636.pdf
footprint LT-S6_N (SOT23, 6-Leads, Body 2.9x1.63mm, Pitch 0.95mm, IPC Medium Density)
footprint LT-S6_L (SOT23, 6-Leads, Body 2.9x1.63mm, Pitch 0.95mm, IPC High Density)
footprint LT-S6_M (SOT23, 6-Leads, Body 2.9x1.63mm, Pitch 0.95mm, IPC Low Density)
pins: 1 OUTA (out), 2 GND (power), 3 +INA (in), 4 -INB (in), 5 VS (power), 6 OUTB (out)

## LT6700HVHS6-2#PBF
designator U?
Micropower, Low Voltage, Comparator with 400 mV Reference, 2 Channels, 1.4 to 36 V, -40 to +125 degC, 6-pin TSOT-23 (S6); Generic Part Number: LT6700HV-2; Manufacturer: Linear Technology; PartNumber: LT6700HVHS6-2#PBF; Channels (#): 2; Prop Delay (us): 18; Supply Current (uA) Guaranteed: 10; Supply Current (uA) Typical: 5.7; Vos (mV) Typical: 6; Vs Max (V): 36; Vs Min (V): 1.4; DatasheetVersion: Rev G; PackageReference: S6; PackageDescription: 6-Pin Plastic TSOT-23, Body 2.9 x 1.63 mm, Pitch 0.95 mm; Features: Comparator, Reference, Over-the-Top Inputs; RoHS: Y; Supply Voltage Range: 1.4 to 36 V; Mounting Technology: Surface Mount; Code_JEDEC: MO-193; ComponentLink1Description: Manufacturer URL; ComponentLink1URL: http://www.linear.com/; ComponentLink2Description: Datasheet; ComponentLink2URL: http://cds.linear.com/docs/en/datasheet/6700123fg.pdf; ComponentLink3Description: Package Specification; ComponentLink3URL: http://cds.linear.com/docs/en/packaging/SOT_6_05-08-1636.pdf
footprint LT-S6_N (SOT23, 6-Leads, Body 2.9x1.63mm, Pitch 0.95mm, IPC Medium Density)
footprint LT-S6_L (SOT23, 6-Leads, Body 2.9x1.63mm, Pitch 0.95mm, IPC High Density)
footprint LT-S6_M (SOT23, 6-Leads, Body 2.9x1.63mm, Pitch 0.95mm, IPC Low Density)
pins: 1 OUTA (out), 2 GND (power), 3 -INA (in), 4 -INB (in), 5 VS (power), 6 OUTB (out)

## LT6700HVHS6-2#TRMPBF
designator U?
Micropower, Low Voltage, Comparator with 400 mV Reference, 2 Channels, 1.4 to 36 V, -40 to +125 degC, 6-pin TSOT-23 (S6), Mini Tape and Reel; Generic Part Number: LT6700HV-2; Manufacturer: Linear Technology; PartNumber: LT6700HVHS6-2#TRMPBF; Channels (#): 2; Prop Delay (us): 18; Supply Current (uA) Guaranteed: 10; Supply Current (uA) Typical: 5.7; Vos (mV) Typical: 6; Vs Max (V): 36; Vs Min (V): 1.4; DatasheetVersion: Rev G; PackageReference: S6; PackageDescription: 6-Pin Plastic TSOT-23, Body 2.9 x 1.63 mm, Pitch 0.95 mm; Supplier 1: Digi-Key; Supplier Part Number 1: LT6700HVHS6-2#TRMPBF-ND; Features: Comparator, Reference, Over-the-Top Inputs; RoHS: Y; Supply Voltage Range: 1.4 to 36 V; Mounting Technology: Surface Mount; Code_JEDEC: MO-193; ComponentLink1Description: Manufacturer URL; ComponentLink1URL: http://www.linear.com/; ComponentLink2Description: Datasheet; ComponentLink2URL: http://cds.linear.com/docs/en/datasheet/6700123fg.pdf; ComponentLink3Description: Package Specification; ComponentLink3URL: http://cds.linear.com/docs/en/packaging/SOT_6_05-08-1636.pdf
footprint LT-S6_N (SOT23, 6-Leads, Body 2.9x1.63mm, Pitch 0.95mm, IPC Medium Density)
footprint LT-S6_L (SOT23, 6-Leads, Body 2.9x1.63mm, Pitch 0.95mm, IPC High Density)
footprint LT-S6_M (SOT23, 6-Leads, Body 2.9x1.63mm, Pitch 0.95mm, IPC Low Density)
pins: 1 OUTA (out), 2 GND (power), 3 -INA (in), 4 -INB (in), 5 VS (power), 6 OUTB (out)

## LT6700HVHS6-2#TRPBF
designator U?
Micropower, Low Voltage, Comparator with 400 mV Reference, 2 Channels, 1.4 to 36 V, -40 to +125 degC, 6-pin TSOT-23 (S6), Tape and Reel; Generic Part Number: LT6700HV-2; Manufacturer: Linear Technology; PartNumber: LT6700HVHS6-2#TRPBF; Channels (#): 2; Prop Delay (us): 18; Supply Current (uA) Guaranteed: 10; Supply Current (uA) Typical: 5.7; Vos (mV) Typical: 6; Vs Max (V): 36; Vs Min (V): 1.4; DatasheetVersion: Rev G; PackageReference: S6; PackageDescription: 6-Pin Plastic TSOT-23, Body 2.9 x 1.63 mm, Pitch 0.95 mm; Supplier 1: Digi-Key; Supplier Part Number 1: LT6700HVHS6-2#TRPBF-ND; Features: Comparator, Reference, Over-the-Top Inputs; RoHS: Y; Supply Voltage Range: 1.4 to 36 V; Mounting Technology: Surface Mount; Code_JEDEC: MO-193; ComponentLink1Description: Manufacturer URL; ComponentLink1URL: http://www.linear.com/; ComponentLink2Description: Datasheet; ComponentLink2URL: http://cds.linear.com/docs/en/datasheet/6700123fg.pdf; ComponentLink3Description: Package Specification; ComponentLink3URL: http://cds.linear.com/docs/en/packaging/SOT_6_05-08-1636.pdf
footprint LT-S6_N (SOT23, 6-Leads, Body 2.9x1.63mm, Pitch 0.95mm, IPC Medium Density)
footprint LT-S6_L (SOT23, 6-Leads, Body 2.9x1.63mm, Pitch 0.95mm, IPC High Density)
footprint LT-S6_M (SOT23, 6-Leads, Body 2.9x1.63mm, Pitch 0.95mm, IPC Low Density)
pins: 1 OUTA (out), 2 GND (power), 3 -INA (in), 4 -INB (in), 5 VS (power), 6 OUTB (out)

## LT6700HVHS6-3#PBF
designator U?
Micropower, Low Voltage, Comparator with 400 mV Reference, 2 Channels, 1.4 to 36 V, -40 to +125 degC, 6-pin TSOT-23 (S6); Generic Part Number: LT6700HV-3; Manufacturer: Linear Technology; PartNumber: LT6700HVHS6-3#PBF; Channels (#): 2; Prop Delay (us): 18; Supply Current (uA) Guaranteed: 10; Supply Current (uA) Typical: 5.7; Vos (mV) Typical: 6; Vs Max (V): 36; Vs Min (V): 1.4; DatasheetVersion: Rev G; PackageReference: S6; PackageDescription: 6-Pin Plastic TSOT-23, Body 2.9 x 1.63 mm, Pitch 0.95 mm; Supplier 1: Farnell; Supplier Part Number 1: 2294782; Supplier 2: Newark; Supplier Part Number 2: 78T4290; Features: Comparator, Reference, Over-the-Top Inputs; RoHS: Y; Supply Voltage Range: 1.4 to 36 V; Mounting Technology: Surface Mount; Code_JEDEC: MO-193; ComponentLink1Description: Manufacturer URL; ComponentLink1URL: http://www.linear.com/; ComponentLink2Description: Datasheet; ComponentLink2URL: http://cds.linear.com/docs/en/datasheet/6700123fg.pdf; ComponentLink3Description: Package Specification; ComponentLink3URL: http://cds.linear.com/docs/en/packaging/SOT_6_05-08-1636.pdf
footprint LT-S6_N (SOT23, 6-Leads, Body 2.9x1.63mm, Pitch 0.95mm, IPC Medium Density)
footprint LT-S6_L (SOT23, 6-Leads, Body 2.9x1.63mm, Pitch 0.95mm, IPC High Density)
footprint LT-S6_M (SOT23, 6-Leads, Body 2.9x1.63mm, Pitch 0.95mm, IPC Low Density)
pins: 1 OUTA (out), 2 GND (power), 3 +INA (in), 4 +INB (in), 5 VS (power), 6 OUTB (out)

## LT6700HVHS6-3#TRMPBF
designator U?
Micropower, Low Voltage, Comparator with 400 mV Reference, 2 Channels, 1.4 to 36 V, -40 to +125 degC, 6-pin TSOT-23 (S6), Mini Tape and Reel; Generic Part Number: LT6700HV-3; Manufacturer: Linear Technology; PartNumber: LT6700HVHS6-3#TRMPBF; Channels (#): 2; Prop Delay (us): 18; Supply Current (uA) Guaranteed: 10; Supply Current (uA) Typical: 5.7; Vos (mV) Typical: 6; Vs Max (V): 36; Vs Min (V): 1.4; DatasheetVersion: Rev G; PackageReference: S6; PackageDescription: 6-Pin Plastic TSOT-23, Body 2.9 x 1.63 mm, Pitch 0.95 mm; Supplier 1: Digi-Key; Supplier Part Number 1: LT6700HVHS6-3#TRMPBF-ND; Features: Comparator, Reference, Over-the-Top Inputs; RoHS: Y; Supply Voltage Range: 1.4 to 36 V; Mounting Technology: Surface Mount; Code_JEDEC: MO-193; ComponentLink1Description: Manufacturer URL; ComponentLink1URL: http://www.linear.com/; ComponentLink2Description: Datasheet; ComponentLink2URL: http://cds.linear.com/docs/en/datasheet/6700123fg.pdf; ComponentLink3Description: Package Specification; ComponentLink3URL: http://cds.linear.com/docs/en/packaging/SOT_6_05-08-1636.pdf
footprint LT-S6_N (SOT23, 6-Leads, Body 2.9x1.63mm, Pitch 0.95mm, IPC Medium Density)
footprint LT-S6_L (SOT23, 6-Leads, Body 2.9x1.63mm, Pitch 0.95mm, IPC High Density)
footprint LT-S6_M (SOT23, 6-Leads, Body 2.9x1.63mm, Pitch 0.95mm, IPC Low Density)
pins: 1 OUTA (out), 2 GND (power), 3 +INA (in), 4 +INB (in), 5 VS (power), 6 OUTB (out)

## LT6700HVHS6-3#TRPBF
designator U?
Micropower, Low Voltage, Comparator with 400 mV Reference, 2 Channels, 1.4 to 36 V, -40 to +125 degC, 6-pin TSOT-23 (S6), Tape and Reel; Generic Part Number: LT6700HV-3; Manufacturer: Linear Technology; PartNumber: LT6700HVHS6-3#TRPBF; Channels (#): 2; Prop Delay (us): 18; Supply Current (uA) Guaranteed: 10; Supply Current (uA) Typical: 5.7; Vos (mV) Typical: 6; Vs Max (V): 36; Vs Min (V): 1.4; DatasheetVersion: Rev G; PackageReference: S6; PackageDescription: 6-Pin Plastic TSOT-23, Body 2.9 x 1.63 mm, Pitch 0.95 mm; Supplier 1: Digi-Key; Supplier Part Number 1: LT6700HVHS6-3#TRPBF-ND; Features: Comparator, Reference, Over-the-Top Inputs; RoHS: Y; Supply Voltage Range: 1.4 to 36 V; Mounting Technology: Surface Mount; Code_JEDEC: MO-193; ComponentLink1Description: Manufacturer URL; ComponentLink1URL: http://www.linear.com/; ComponentLink2Description: Datasheet; ComponentLink2URL: http://cds.linear.com/docs/en/datasheet/6700123fg.pdf; ComponentLink3Description: Package Specification; ComponentLink3URL: http://cds.linear.com/docs/en/packaging/SOT_6_05-08-1636.pdf
footprint LT-S6_N (SOT23, 6-Leads, Body 2.9x1.63mm, Pitch 0.95mm, IPC Medium Density)
footprint LT-S6_L (SOT23, 6-Leads, Body 2.9x1.63mm, Pitch 0.95mm, IPC High Density)
footprint LT-S6_M (SOT23, 6-Leads, Body 2.9x1.63mm, Pitch 0.95mm, IPC Low Density)
pins: 1 OUTA (out), 2 GND (power), 3 +INA (in), 4 +INB (in), 5 VS (power), 6 OUTB (out)

## LT6700HVIS6-1#PBF
designator U?
Micropower, Low Voltage, Comparator with 400 mV Reference, 2 Channels, 1.4 to 36 V, -40 to +85 degC, 6-pin TSOT-23 (S6); Generic Part Number: LT6700HV-1; Manufacturer: Linear Technology; PartNumber: LT6700HVIS6-1#PBF; Channels (#): 2; Prop Delay (us): 18; Supply Current (uA) Guaranteed: 10; Supply Current (uA) Typical: 5.7; Vos (mV) Typical: 6; Vs Max (V): 36; Vs Min (V): 1.4; DatasheetVersion: Rev G; PackageReference: S6; PackageDescription: 6-Pin Plastic TSOT-23, Body 2.9 x 1.63 mm, Pitch 0.95 mm; Supplier 1: Newark; Supplier Part Number 1: 78T4291; Features: Comparator, Window Comparator, Reference, Over-the-Top Inputs; RoHS: Y; Supply Voltage Range: 1.4 to 36 V; Mounting Technology: Surface Mount; Code_JEDEC: MO-193; ComponentLink1Description: Manufacturer URL; ComponentLink1URL: http://www.linear.com/; ComponentLink2Description: Datasheet; ComponentLink2URL: http://cds.linear.com/docs/en/datasheet/6700123fg.pdf; ComponentLink3Description: Package Specification; ComponentLink3URL: http://cds.linear.com/docs/en/packaging/SOT_6_05-08-1636.pdf
footprint LT-S6_N (SOT23, 6-Leads, Body 2.9x1.63mm, Pitch 0.95mm, IPC Medium Density)
footprint LT-S6_L (SOT23, 6-Leads, Body 2.9x1.63mm, Pitch 0.95mm, IPC High Density)
footprint LT-S6_M (SOT23, 6-Leads, Body 2.9x1.63mm, Pitch 0.95mm, IPC Low Density)
pins: 1 OUTA (out), 2 GND (power), 3 +INA (in), 4 -INB (in), 5 VS (power), 6 OUTB (out)

## LT6700HVIS6-1#TRMPBF
designator U?
Micropower, Low Voltage, Comparator with 400 mV Reference, 2 Channels, 1.4 to 36 V, -40 to +85 degC, 6-pin TSOT-23 (S6), Mini Tape and Reel; Generic Part Number: LT6700HV-1; Manufacturer: Linear Technology; PartNumber: LT6700HVIS6-1#TRMPBF; Channels (#): 2; Prop Delay (us): 18; Supply Current (uA) Guaranteed: 10; Supply Current (uA) Typical: 5.7; Vos (mV) Typical: 6; Vs Max (V): 36; Vs Min (V): 1.4; DatasheetVersion: Rev G; PackageReference: S6; PackageDescription: 6-Pin Plastic TSOT-23, Body 2.9 x 1.63 mm, Pitch 0.95 mm; Supplier 1: Digi-Key; Supplier Part Number 1: LT6700HVIS6-1#TRMPBF-ND; Supplier 2: Newark; Supplier Part Number 2: 02P7685; Features: Comparator, Window Comparator, Reference, Over-the-Top Inputs; RoHS: Y; Supply Voltage Range: 1.4 to 36 V; Mounting Technology: Surface Mount; Code_JEDEC: MO-193; ComponentLink1Description: Manufacturer URL; ComponentLink1URL: http://www.linear.com/; ComponentLink2Description: Datasheet; ComponentLink2URL: http://cds.linear.com/docs/en/datasheet/6700123fg.pdf; ComponentLink3Description: Package Specification; ComponentLink3URL: http://cds.linear.com/docs/en/packaging/SOT_6_05-08-1636.pdf
footprint LT-S6_N (SOT23, 6-Leads, Body 2.9x1.63mm, Pitch 0.95mm, IPC Medium Density)
footprint LT-S6_L (SOT23, 6-Leads, Body 2.9x1.63mm, Pitch 0.95mm, IPC High Density)
footprint LT-S6_M (SOT23, 6-Leads, Body 2.9x1.63mm, Pitch 0.95mm, IPC Low Density)
pins: 1 OUTA (out), 2 GND (power), 3 +INA (in), 4 -INB (in), 5 VS (power), 6 OUTB (out)

## LT6700HVIS6-1#TRPBF
designator U?
Micropower, Low Voltage, Comparator with 400 mV Reference, 2 Channels, 1.4 to 36 V, -40 to +85 degC, 6-pin TSOT-23 (S6), Tape and Reel; Generic Part Number: LT6700HV-1; Manufacturer: Linear Technology; PartNumber: LT6700HVIS6-1#TRPBF; Channels (#): 2; Prop Delay (us): 18; Supply Current (uA) Guaranteed: 10; Supply Current (uA) Typical: 5.7; Vos (mV) Typical: 6; Vs Max (V): 36; Vs Min (V): 1.4; DatasheetVersion: Rev G; PackageReference: S6; PackageDescription: 6-Pin Plastic TSOT-23, Body 2.9 x 1.63 mm, Pitch 0.95 mm; Supplier 1: Digi-Key; Supplier Part Number 1: LT6700HVIS6-1#TRPBF-ND; Features: Comparator, Window Comparator, Reference, Over-the-Top Inputs; RoHS: Y; Supply Voltage Range: 1.4 to 36 V; Mounting Technology: Surface Mount; Code_JEDEC: MO-193; ComponentLink1Description: Manufacturer URL; ComponentLink1URL: http://www.linear.com/; ComponentLink2Description: Datasheet; ComponentLink2URL: http://cds.linear.com/docs/en/datasheet/6700123fg.pdf; ComponentLink3Description: Package Specification; ComponentLink3URL: http://cds.linear.com/docs/en/packaging/SOT_6_05-08-1636.pdf
footprint LT-S6_N (SOT23, 6-Leads, Body 2.9x1.63mm, Pitch 0.95mm, IPC Medium Density)
footprint LT-S6_L (SOT23, 6-Leads, Body 2.9x1.63mm, Pitch 0.95mm, IPC High Density)
footprint LT-S6_M (SOT23, 6-Leads, Body 2.9x1.63mm, Pitch 0.95mm, IPC Low Density)
pins: 1 OUTA (out), 2 GND (power), 3 +INA (in), 4 -INB (in), 5 VS (power), 6 OUTB (out)

## LT6700HVIS6-2#PBF
designator U?
Micropower, Low Voltage, Comparator with 400 mV Reference, 2 Channels, 1.4 to 36 V, -40 to +85 degC, 6-pin TSOT-23 (S6); Generic Part Number: LT6700HV-2; Manufacturer: Linear Technology; PartNumber: LT6700HVIS6-2#PBF; Channels (#): 2; Prop Delay (us): 18; Supply Current (uA) Guaranteed: 10; Supply Current (uA) Typical: 5.7; Vos (mV) Typical: 6; Vs Max (V): 36; Vs Min (V): 1.4; DatasheetVersion: Rev G; PackageReference: S6; PackageDescription: 6-Pin Plastic TSOT-23, Body 2.9 x 1.63 mm, Pitch 0.95 mm; Supplier 1: Newark; Supplier Part Number 1: 78T4292; Features: Comparator, Reference, Over-the-Top Inputs; RoHS: Y; Supply Voltage Range: 1.4 to 36 V; Mounting Technology: Surface Mount; Code_JEDEC: MO-193; ComponentLink1Description: Manufacturer URL; ComponentLink1URL: http://www.linear.com/; ComponentLink2Description: Datasheet; ComponentLink2URL: http://cds.linear.com/docs/en/datasheet/6700123fg.pdf; ComponentLink3Description: Package Specification; ComponentLink3URL: http://cds.linear.com/docs/en/packaging/SOT_6_05-08-1636.pdf
footprint LT-S6_N (SOT23, 6-Leads, Body 2.9x1.63mm, Pitch 0.95mm, IPC Medium Density)
footprint LT-S6_L (SOT23, 6-Leads, Body 2.9x1.63mm, Pitch 0.95mm, IPC High Density)
footprint LT-S6_M (SOT23, 6-Leads, Body 2.9x1.63mm, Pitch 0.95mm, IPC Low Density)
pins: 1 OUTA (out), 2 GND (power), 3 -INA (in), 4 -INB (in), 5 VS (power), 6 OUTB (out)

## LT6700HVIS6-2#TRMPBF
designator U?
Micropower, Low Voltage, Comparator with 400 mV Reference, 2 Channels, 1.4 to 36 V, -40 to +85 degC, 6-pin TSOT-23 (S6), Mini Tape and Reel; Generic Part Number: LT6700HV-2; Manufacturer: Linear Technology; PartNumber: LT6700HVIS6-2#TRMPBF; Channels (#): 2; Prop Delay (us): 18; Supply Current (uA) Guaranteed: 10; Supply Current (uA) Typical: 5.7; Vos (mV) Typical: 6; Vs Max (V): 36; Vs Min (V): 1.4; DatasheetVersion: Rev G; PackageReference: S6; PackageDescription: 6-Pin Plastic TSOT-23, Body 2.9 x 1.63 mm, Pitch 0.95 mm; Supplier 1: Digi-Key; Supplier Part Number 1: LT6700HVIS6-2#TRMPBF-ND; Features: Comparator, Reference, Over-the-Top Inputs; RoHS: Y; Supply Voltage Range: 1.4 to 36 V; Mounting Technology: Surface Mount; Code_JEDEC: MO-193; ComponentLink1Description: Manufacturer URL; ComponentLink1URL: http://www.linear.com/; ComponentLink2Description: Datasheet; ComponentLink2URL: http://cds.linear.com/docs/en/datasheet/6700123fg.pdf; ComponentLink3Description: Package Specification; ComponentLink3URL: http://cds.linear.com/docs/en/packaging/SOT_6_05-08-1636.pdf
footprint LT-S6_N (SOT23, 6-Leads, Body 2.9x1.63mm, Pitch 0.95mm, IPC Medium Density)
footprint LT-S6_L (SOT23, 6-Leads, Body 2.9x1.63mm, Pitch 0.95mm, IPC High Density)
footprint LT-S6_M (SOT23, 6-Leads, Body 2.9x1.63mm, Pitch 0.95mm, IPC Low Density)
pins: 1 OUTA (out), 2 GND (power), 3 -INA (in), 4 -INB (in), 5 VS (power), 6 OUTB (out)

## LT6700HVIS6-2#TRPBF
designator U?
Micropower, Low Voltage, Comparator with 400 mV Reference, 2 Channels, 1.4 to 36 V, -40 to +85 degC, 6-pin TSOT-23 (S6), Tape and Reel; Generic Part Number: LT6700HV-2; Manufacturer: Linear Technology; PartNumber: LT6700HVIS6-2#TRPBF; Channels (#): 2; Prop Delay (us): 18; Supply Current (uA) Guaranteed: 10; Supply Current (uA) Typical: 5.7; Vos (mV) Typical: 6; Vs Max (V): 36; Vs Min (V): 1.4; DatasheetVersion: Rev G; PackageReference: S6; PackageDescription: 6-Pin Plastic TSOT-23, Body 2.9 x 1.63 mm, Pitch 0.95 mm; Supplier 1: Digi-Key; Supplier Part Number 1: LT6700HVIS6-2#TRPBF-ND; Features: Comparator, Reference, Over-the-Top Inputs; RoHS: Y; Supply Voltage Range: 1.4 to 36 V; Mounting Technology: Surface Mount; Code_JEDEC: MO-193; ComponentLink1Description: Manufacturer URL; ComponentLink1URL: http://www.linear.com/; ComponentLink2Description: Datasheet; ComponentLink2URL: http://cds.linear.com/docs/en/datasheet/6700123fg.pdf; ComponentLink3Description: Package Specification; ComponentLink3URL: http://cds.linear.com/docs/en/packaging/SOT_6_05-08-1636.pdf
footprint LT-S6_N (SOT23, 6-Leads, Body 2.9x1.63mm, Pitch 0.95mm, IPC Medium Density)
footprint LT-S6_L (SOT23, 6-Leads, Body 2.9x1.63mm, Pitch 0.95mm, IPC High Density)
footprint LT-S6_M (SOT23, 6-Leads, Body 2.9x1.63mm, Pitch 0.95mm, IPC Low Density)
pins: 1 OUTA (out), 2 GND (power), 3 -INA (in), 4 -INB (in), 5 VS (power), 6 OUTB (out)

## LT6700HVIS6-3#PBF
designator U?
Micropower, Low Voltage, Comparator with 400 mV Reference, 2 Channels, 1.4 to 36 V, -40 to +85 degC, 6-pin TSOT-23 (S6); Generic Part Number: LT6700HV-3; Manufacturer: Linear Technology; PartNumber: LT6700HVIS6-3#PBF; Channels (#): 2; Prop Delay (us): 18; Supply Current (uA) Guaranteed: 10; Supply Current (uA) Typical: 5.7; Vos (mV) Typical: 6; Vs Max (V): 36; Vs Min (V): 1.4; DatasheetVersion: Rev G; PackageReference: S6; PackageDescription: 6-Pin Plastic TSOT-23, Body 2.9 x 1.63 mm, Pitch 0.95 mm; Supplier 1: Newark; Supplier Part Number 1: 78T4293; Features: Comparator, Reference, Over-the-Top Inputs; RoHS: Y; Supply Voltage Range: 1.4 to 36 V; Mounting Technology: Surface Mount; Code_JEDEC: MO-193; ComponentLink1Description: Manufacturer URL; ComponentLink1URL: http://www.linear.com/; ComponentLink2Description: Datasheet; ComponentLink2URL: http://cds.linear.com/docs/en/datasheet/6700123fg.pdf; ComponentLink3Description: Package Specification; ComponentLink3URL: http://cds.linear.com/docs/en/packaging/SOT_6_05-08-1636.pdf
footprint LT-S6_N (SOT23, 6-Leads, Body 2.9x1.63mm, Pitch 0.95mm, IPC Medium Density)
footprint LT-S6_L (SOT23, 6-Leads, Body 2.9x1.63mm, Pitch 0.95mm, IPC High Density)
footprint LT-S6_M (SOT23, 6-Leads, Body 2.9x1.63mm, Pitch 0.95mm, IPC Low Density)
pins: 1 OUTA (out), 2 GND (power), 3 +INA (in), 4 +INB (in), 5 VS (power), 6 OUTB (out)